# Altium schematic symbol library 691 252 810 0xx.SchLib: 2 symbols
Pins are listed as number, name and electrical type; pins without a type are passive.

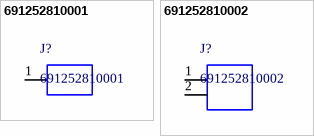
[diagram p0: symbols 691252810001 to 691252810002]

## 691252810001
designator J?
WR-TBL Horizontal Cable Entry With Rising Cage Clamp,Serie 2528 - 10.00 mm; Manufacturer: Wurth Elektronik; ComponentLink1 Description: Manufacturer; ComponentLink2 Description: Datasheet; ComponentLink1URL: http://www.we-online.de; ComponentLink2URL: http://katalog.we-online.de/em/datasheet/6912528100xx.pdf; Created by: Baojun Chen; Created Date: 15.Sep.2015; partNo: 691252810001
footprint 691252810001 (Serie 2528 - 10.00 mm _ 1 pin)
pins: 1

## 691252810002
designator J?
WR-TBL Horizontal Cable Entry With Rising Cage Clamp,Serie 2528 - 10.00 mm; Manufacturer: Wurth Elektronik; ComponentLink1 Description: Manufacturer; ComponentLink2 Description: Datasheet; ComponentLink1URL: http://www.we-online.de; ComponentLink2URL: http://katalog.we-online.de/em/datasheet/6912528100xx.pdf; Created by: Baojun Chen; Created Date: 15.Sep.2015; partNo: 691252810002
footprint 691252810002 (Serie 2528 - 10.00 mm _ 2 pins)
pins: 1, 2